# Altium schematic symbol library sensor.SchLib: 1 symbol
Pins are listed as number, name and electrical type; pins without a type are passive.

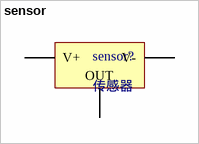
[diagram p0: symbol sensor]

## sensor
designator sensor?, comment 传感器
sensor
pins: 1 V+, 2 V-, 3 OUT